# Altium footprint library QFN.PcbLib: 1 footprints
Each footprint in its own frame and in the unit in brackets; x right, y up, seen from the top. Pads: shape width x height; smd on the part's side, far side on the other; paste and mask are expansions set on the pad; w line width, h text height; cw(c..) or ccw(c..) is an arc to the next point about the centre after c.
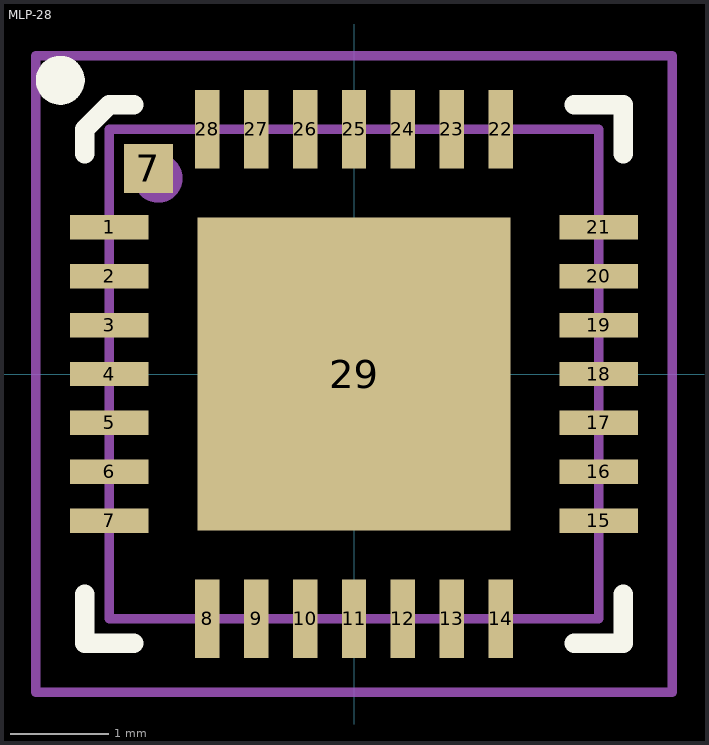
[diagram p0: the footprint, top view; thin cyan lines are the x and y axes]

## MLP-28 [mm]
height 0.9
pads (30):
  rect 0.8x0.25 smd: 1(-2.5,1.5) 2(-2.5,1) 3(-2.5,0.5) 4(-2.5,0) 5(-2.5,-0.5) 6(-2.5,-1) 7(-2.5,-1.5) 15(2.5,-1.5) 16(2.5,-1) 17(2.5,-0.5) 18(2.5,0) 19(2.5,0.5) 20(2.5,1) 21(2.5,1.5)
  rect 0.5x0.5 smd: 7(-2.1,2.1)
  rect 0.25x0.8 smd: 8(-1.5,-2.5) 9(-1,-2.5) 10(-0.5,-2.5) 11(0,-2.5) 12(0.5,-2.5) 13(1,-2.5) 14(1.5,-2.5) 22(1.5,2.5) 23(1,2.5) 24(0.5,2.5) 25(0,2.5) 26(-0.5,2.5) 27(-1,2.5) 28(-1.5,2.5)
  rect 3.2x3.2 smd: 29(0,0)
Top Overlay:
  circle w0.25: c-3,3 r0.125
  lines w0.2: -2.75,-2.25 -2.75,-2.75 -2.25,-2.75 ; -2.75,2.25 -2.75,2.5 -2.5,2.75 ; -2.5,2.75 -2.25,2.75 ; 2.25,-2.75 2.75,-2.75 2.75,-2.25 ; 2.25,2.75 2.75,2.75 2.75,2.25
Mechanical 7:
  lines w0.05: -3.25,-3.25 -3.25,3.25 3.25,3.25 3.25,-3.25 -3.25,-3.25
  text ".Designator" at -1.75,-0.25 h1.2
Mechanical 13:
  circle w0.25: c-2,2 r0.125
  lines w0.1: -2.5,-2.5 -2.5,2.5 2.5,2.5 2.5,-2.5 -2.5,-2.5
Mechanical 15:
  lines w0.1: -0.5,0 0.5,0 ; 0,-0.5 0,0.5 ; -3.25,-3.25 3.25,-3.25 3.25,3.25 -3.25,3.25 -3.25,-3.25
3D body: height 0.9, standoff 0.01, extent -2.5,-2.5 2.5,2.5